# EAGLE library part SCHA186221 (library prasad_component)
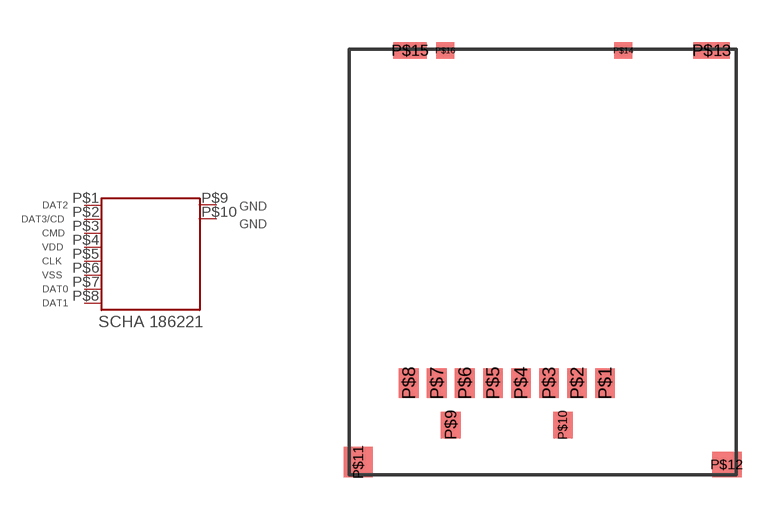
[diagram p2: symbol with the pads of SCHA186221; footprint SCHA186221]

Designator prefix -

## SCHA186221  [SCHA186221]
P$1  P$1
P$2  P$2
P$3  P$3
P$4  P$4
P$5  P$5
P$6  P$6
P$7  P$7
P$8  P$8
P$9  P$9
P$10  P$10
P$11  P$11  nc
P$12  P$12  nc
P$13  P$13  nc
P$14  P$14  nc
P$15  P$15  nc
P$16  P$16

## Footprint SCHA186221 (pad centres in mm)
smd 0.7 x 1.05: P$1 2.225,3.275; P$2 1.225,3.275; P$3 0.225,3.275; P$4 -0.775,3.275; P$5 -1.775,3.275; P$6 -2.775,3.275; P$7 -3.775,3.275; P$8 -4.775,3.275
smd 0.7 x 0.95: P$9 -3.275,1.775; P$10 0.725,1.775
smd 1.05 x 1.1: P$11 -6.575,0.45
smd 1.05 x 0.9: P$12 6.575,0.36
smd 1.3 x 0.6: P$13 6.025,15.15
smd 0.65 x 0.6: P$14 2.875,15.15; P$16 -3.475,15.15
smd 1.2 x 0.6: P$15 -4.725,15.15